# Altium integrated library RF-SPLITTERV2.IntLib: 3 symbols
Pins are listed as number, name and electrical type; pins without a type are passive.

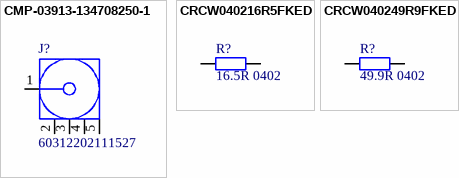
[diagram p0: symbols CMP-03913-134708250-1 to CRCW040249R9FKED]

## CMP-03913-134708250-1
designator J?, comment 60312202111527
60312202111527 WR-SMA_SMA PCB End Launch Jack; NexarPartId: 134708250; Insulation Resistance: 5GΩ; Connector Type: SMA; Insertion Loss (dB): 0.14dB; Impedance: 50Ω; Min Operating Temperature: -65°C; Insulation Material: PTFE; RoHS: Compliant; Max Operating Temperature: 165°C
footprint 60312202111527 (WR-SMA_SMA PCB End Launch Jack)
pins: 1 Signal "Signal Pin", 2 GND, 3 GND, 4 GND, 5 GND

## CRCW040216R5FKED
designator R?, comment SCH: 16.5R 0402  (hidden comment: Res)
RES SMD 16.5 OHM 1% 1/16W 100PPM 0402; Manufacturer P/N: CRCW040216R5FKED; Manufacturer: VISHAY; COMPATIBLES: F1; VALUE: 16.5R; NoPins: 2; Supplier 1: Digi-Key; Supplier Part Number 1: 541-16.5LCT-ND; SMD: True
footprint RESC0402N
pins: 1, 2

## CRCW040249R9FKED
designator R?, comment SCH: 49.9R 0402  (hidden comment: Res)
RES SMD 49.9 OHM 1% 1/16W 100PPM 0402; Manufacturer P/N: CRCW040249R9FKED; Manufacturer: VISHAY; COMPATIBLES: F1; VALUE: 49.9R; NoPins: 2; Supplier 1: Digi-Key; Supplier Part Number 1: 541-49.9LCT-ND; SMD: True
footprint RESC0402N
pins: 1, 2